# Altium footprint library 1711738.PcbLib: 1 footprints
Each footprint in its own frame and in the unit in brackets; x right, y up, seen from the top. Pads: shape width x height; smd on the part's side, far side on the other; paste and mask are expansions set on the pad; w line width, h text height; cw(c..) or ccw(c..) is an arc to the next point about the centre after c.
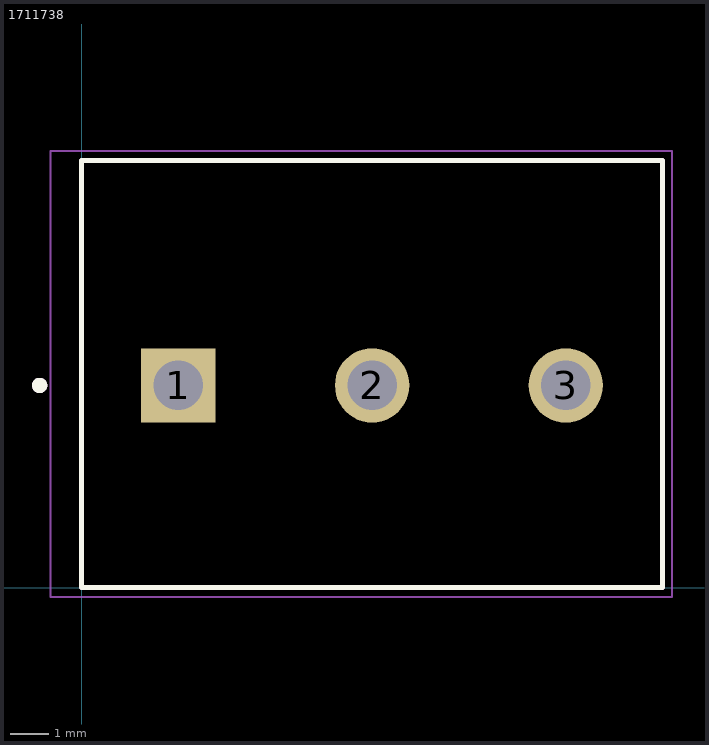
[diagram p0: the footprint, top view; thin cyan lines are the x and y axes]

## 1711738 [mm] "PCB Terminal Screw 5.08mm 12AWG 400V 24A 3 Position COMBICON MKDS Series"
pads (3):
  rect 1.95x1.95 / inner round 1.95 / far side rect 1.95x1.95 hole 1.3: 1(2.54,5.3)
  round 1.95 hole 1.3: 2(7.62,5.3) 3(12.7,5.3)
Top Overlay:
  circle w0.2: c-1.1,5.3 r0.1
  lines w0.127: 0,0 0,11.2 15.24,11.2 15.24,0 0,0
Mechanical 13:
  circle w0.2: c-1.1,5.3 r0.1
  lines w0.127: 0,0 0,11.2 15.24,11.2 15.24,0 0,0
Mechanical 15:
  lines w0.05: -0.82,-0.25 -0.82,11.45 15.49,11.45 15.49,-0.25 -0.82,-0.25
3D body "pxc_1711738_06_01_MKDS-3-3-5-08_3D.stp": height 18.29, standoff -5, extent -0.158,-0.385 15.652,10.795